# Altium footprint library TSSOP08-SPE-CDCLVC1102.PcbLib: 1 footprints
Each footprint in its own frame and in the unit in brackets; x right, y up, seen from the top. Pads: shape width x height; smd on the part's side, far side on the other; paste and mask are expansions set on the pad; w line width, h text height; cw(c..) or ccw(c..) is an arc to the next point about the centre after c.
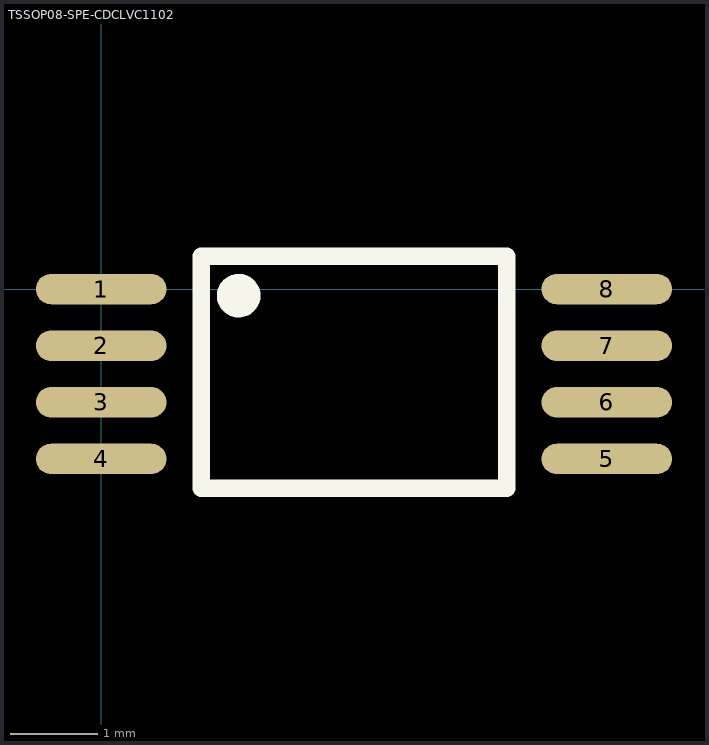
[diagram p0: the footprint, top view; thin cyan lines are the x and y axes]

## TSSOP08-SPE-CDCLVC1102 [mm]
height 1.2
pads (8):
  oval 1.5x0.35 smd: 1(0,0) 2(0,-0.65) 3(0,-1.3) 4(0,-1.95) 5(5.8,-1.95) 6(5.8,-1.3) 7(5.8,-0.65) 8(5.8,0)
Top Overlay:
  circle w0.25: c1.577,-0.076 r0.125
  lines w0.2: 1.15,-2.286 1.15,0.375 4.65,0.375 4.65,-2.286 1.15,-2.286
3D body: height 1.2, standoff 0, extent -0.228,-2.541 6.172,0.559